# Altium footprint library M12.PcbLib: 4 footprints
Each footprint in its own frame and in the unit in brackets; x right, y up, seen from the top. Pads: shape width x height; smd on the part's side, far side on the other; paste and mask are expansions set on the pad; w line width, h text height; cw(c..) or ccw(c..) is an arc to the next point about the centre after c.
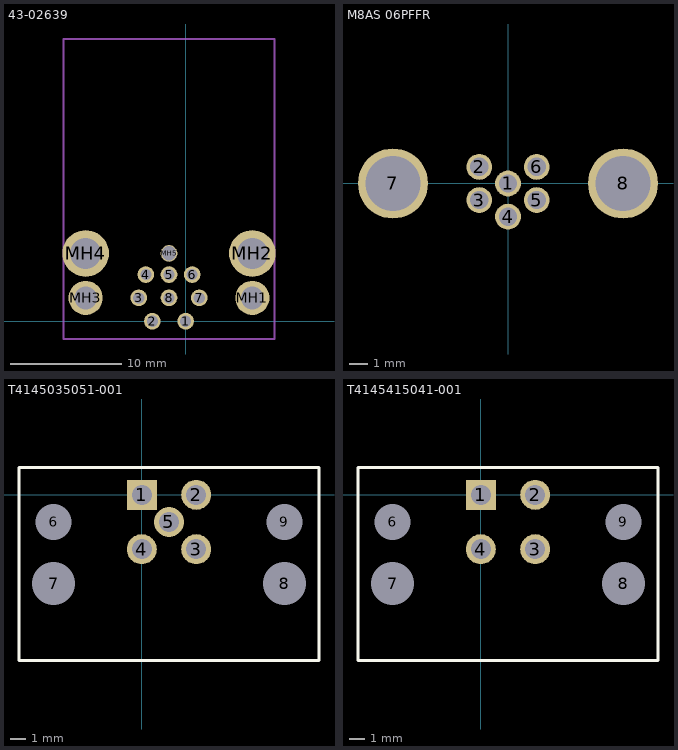
[diagram p0: the footprints below, top view; thin cyan lines are the x and y axes]

## 43-02639 [mm]
pads (13):
  round 1.5 hole 1: 1(0,0) 2(-3,0) 3(-4.22,2.1) 4(-3.58,4.2) 5(-1.5,4.2) 6(0.58,4.2) 7(1.22,2.1) 8(-1.5,2.1)
  round 3.075 hole 2.05: MH1(6,2.1) MH3(-9,2.1)
  round 4.2 hole 2.8: MH2(6,6.1) MH4(-9,6.1)
  round 1.5 hole 1.3: MH5(-1.5,6.1)
Mechanical 15:
  lines w0.2: -11,-1.6 8,-1.6 8,25.4 -11,25.4 -11,-1.6
3D body "43-02639.stp": height 16.1, standoff -3.6, extent -11.024,-1.397 7.976,25.403

## M8AS 06PFFR [mm]
pads (8):
  round 1.4 hole 1: 1(0,0) 2(-1.56,0.9) 3(-1.56,-0.9) 4(0,-1.8) 5(1.56,-0.9) 6(1.56,0.9)
  round 3.8 hole 3: 7(-6.25,0) 8(6.25,0)
3D body "M8AS-06PFFR-SF8001.stp": height 12.85, standoff -3.15, extent -6.4,-2.159 6.4,18.241

## T4145035051-001 [mm]
pads (9):
  rect 1.95x1.95 hole 1.3: 1(0,0)
  round 1.95 hole 1.3: 2(3.54,0) 3(3.54,-3.54) 4(0,-3.54) 5(1.77,-1.77)
  round 1.175 hole 2.35 unplated: 6(-5.73,-1.77) 9(9.27,-1.77)
  round 1.4 hole 2.8 unplated: 7(-5.73,-5.77) 8(9.27,-5.77)
Top Overlay:
  lines w0.2: -7.98,-10.77 11.52,-10.77 11.52,1.77 -7.98,1.77 -7.98,-10.77
Mechanical 15:
  lines w0.1: -7.98,-10.77 11.52,-10.77 11.52,1.77 -7.98,1.77 -7.98,-10.77
3D body "c-t4145035051-001-b-3d.stp": height 16.2, standoff -3.4, extent -7.972,-24.73 11.528,1.27

## T4145415041-001 [mm]
pads (8):
  rect 1.95x1.95 hole 1.3: 1(0,0)
  round 1.95 hole 1.3: 2(3.54,0) 3(3.54,-3.54) 4(0,-3.54)
  round 1.175 hole 2.35 unplated: 6(-5.73,-1.77) 9(9.27,-1.77)
  round 1.4 hole 2.8 unplated: 7(-5.73,-5.77) 8(9.27,-5.77)
Top Overlay:
  lines w0.2: -7.98,-10.77 -7.98,1.77 11.52,1.77 11.52,-10.77 -7.98,-10.77
Mechanical 15:
  lines w0.1: -7.98,-10.77 -7.98,1.77 11.52,1.77 11.52,-10.77 -7.98,-10.77
3D body "c-t4145415041-001-a-3d.stp": height 16.1, standoff -3.5, extent -7.972,-24.73 11.528,1.27